# Altium schematic symbol library YR1B10KCC.SchLib: 2 symbols
Pins are listed as number, name and electrical type; pins without a type are passive.

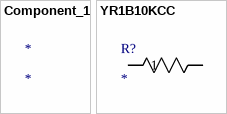
[diagram p0: symbols Component_1 to YR1B10KCC]

## Component_1
designator *

## YR1B10KCC
designator R?
No Description Available; Mfr_Name: TE Connectivity
footprint RES_TYCO_YR1_TYC
pins: 1, 2